# EAGLE library part TLC59711 (library ICs)
12-Channel, 16-Bit, Enhanced Spectrum PWM, RGB, LED Driver with 3.3-V Linear Regulator and Watchdog Timer
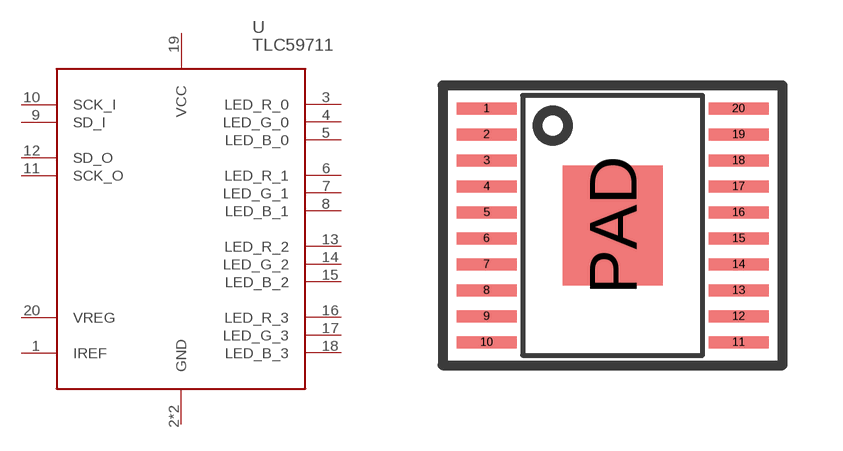
[diagram p83: symbol with the pads of HTSSOP20-4.5MM; footprint HTSSOP20-4.5MM]

Designator prefix U

## TLC59711 (FARNELL: 2492347; PRICE_PER: 2.57; VALUE: TLC59711)  [HTSSOP20-4.5MM]
1  IREF
2  GND
3  LED_R_0
4  LED_G_0
5  LED_B_0
6  LED_R_1
7  LED_G_1
8  LED_B_1
9  SD_I
10  SCK_I
11  SCK_O
12  SD_O
13  LED_R_2
14  LED_G_2
15  LED_B_2
16  LED_R_3
17  LED_G_3
18  LED_B_3
19  VCC
20  VREG
PAD  GND

## Footprint HTSSOP20-4.5MM (pad centres in mm)
smd 1.5 x 0.3: 1 -3.15,2.925; 2 -3.15,2.275; 3 -3.15,1.625; 4 -3.15,0.975; 5 -3.15,0.325; 6 -3.15,-0.325; 7 -3.15,-0.975; 8 -3.15,-1.625; 9 -3.15,-2.275; 10 -3.15,-2.925; 11 3.15,-2.925; 12 3.15,-2.275; 13 3.15,-1.625; 14 3.15,-0.975; 15 3.15,-0.325; 16 3.15,0.325; 17 3.15,0.975; 18 3.15,1.625; 19 3.15,2.275; 20 3.15,2.925
smd 2.5 x 3: PAD 0,0